# Altium footprint library HEADER6.PcbLib: 1 footprints
Each footprint in its own frame and in the unit in brackets; x right, y up, seen from the top. Pads: shape width x height; smd on the part's side, far side on the other; paste and mask are expansions set on the pad; w line width, h text height; cw(c..) or ccw(c..) is an arc to the next point about the centre after c.
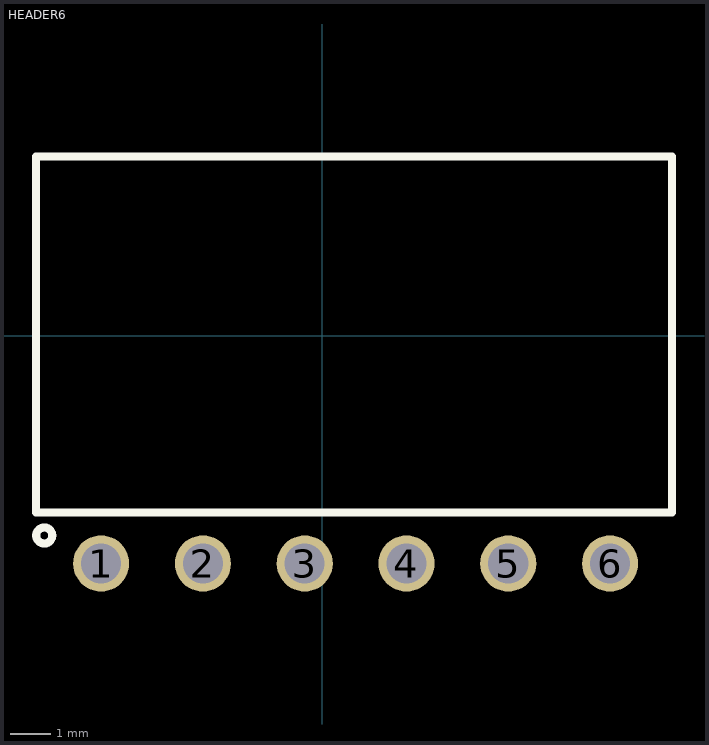
[diagram p0: the footprint, top view; thin cyan lines are the x and y axes]

## HEADER6 [mm]
pads (6):
  round 1.4 / inner round 1.4 / far side oval 1.4x2.2 hole 1 mask+0.1: 1(-5.515,-5.683) 2(-2.975,-5.683) 3(-0.435,-5.683) 4(2.105,-5.683) 5(4.645,-5.683) 6(7.185,-5.683)
Top Overlay:
  circle w0.2: c-6.935,-4.983 r0.2
  lines w0.2: -7.145,-4.413 8.735,-4.413 8.735,4.477 -7.145,4.477 -7.145,-4.413
3D body "HDR_F_1X3RA.step": height 2.55, standoff -3.1, extent 0.589,-5.983 8.684,4.317
3D body "HDR_F_1X3RA.step": height 2.55, standoff -3.1, extent -7.031,-5.983 1.064,4.317